# Altium footprint library Panasonic.PcbLib: 4 footprints
Each footprint in its own frame and in the unit in brackets; x right, y up, seen from the top. Pads: shape width x height; smd on the part's side, far side on the other; paste and mask are expansions set on the pad; w line width, h text height; cw(c..) or ccw(c..) is an arc to the next point about the centre after c.
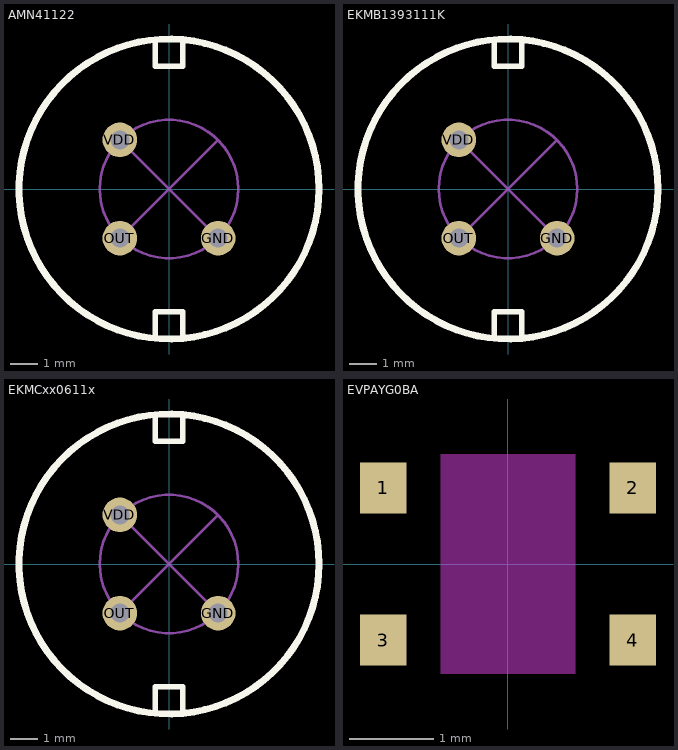
[diagram p0: the footprints below, top view; thin cyan lines are the x and y axes]

## AMN41122 [mm] "AMN41122"
pads (3):
  round 1.27 hole 0.7: GND(1.8,-1.8) OUT(-1.8,-1.8) VDD(-1.8,1.8)
Top Overlay:
  circle w0.254: c0,0 r5.5
  lines w0.2: -0.5,-5.5 -0.5,-4.5 0.5,-4.5 0.5,-5.5 ; -0.5,5.5 -0.5,4.5 0.5,4.5 0.5,5.5
Mechanical 15:
  circle w0.1: c0,0 r2.54
  lines w0.1: -1.8,-1.8 0,0 ; -1.8,1.8 0,0 ; 1.8,-1.8 0,0 ; 1.8,1.8 0,0
3D body: height 17, standoff -1, extent -5.45,-5.477 5.45,5.477

## EKMB1393111K [mm] "EKMB1393111K"
pads (3):
  round 1.27 hole 0.7: GND(1.8,-1.8) OUT(-1.8,-1.8) VDD(-1.8,1.8)
Top Overlay:
  circle w0.254: c0,0 r5.5
  lines w0.2: -0.5,-5.5 -0.5,-4.5 0.5,-4.5 0.5,-5.5 ; -0.5,5.5 -0.5,4.5 0.5,4.5 0.5,5.5
Mechanical 15:
  circle w0.1: c0,0 r2.54
  lines w0.1: -1.8,-1.8 0,0 ; -1.8,1.8 0,0 ; 1.8,-1.8 0,0 ; 1.8,1.8 0,0
3D body: height 17.3, standoff -4.5, extent -8.493,-7.45 8.493,7.45

## EKMCxx0611x [mm] "EKMCxx0611x EKM - High Density Long Distance Detection Type"
height 20.8
pads (3):
  round 1.27 hole 0.7: GND(1.8,-1.8) OUT(-1.8,-1.8) VDD(-1.8,1.8)
Top Overlay:
  circle w0.254: c0,0 r5.5
  lines w0.2: -0.5,-5.5 -0.5,-4.5 0.5,-4.5 0.5,-5.5 ; -0.5,5.5 -0.5,4.5 0.5,4.5 0.5,5.5
Mechanical 15:
  circle w0.1: c0,0 r2.54
  lines w0.1: -1.8,-1.8 0,0 ; -1.8,1.8 0,0 ; 1.8,-1.8 0,0 ; 1.8,1.8 0,0
3D body: height 20.8, standoff -4.6, extent -11,-10.4 11,10.3

## EVPAYG0BA [mm] "EVPAYG0BA IB67 button 3.4x2.9mm, 2.4N"
height 0.7
pads (4):
  rect 0.55x0.6 smd: 1(-1.475,0.9) 2(1.475,0.9) 3(-1.475,-0.9) 4(1.475,-0.9)
Keep-Out Layer:
  rectangle: -0.8,-1.3 0.8,1.3
3D body: height 0.71, standoff 0, extent -1.7,-1.45 1.7,1.45